# Altium footprint library Terminal_Blocks_Rising Case Clamp PCB_3.5mm.PcbLib: 4 footprints
Each footprint in its own frame and in the unit in brackets; x right, y up, seen from the top. Pads: shape width x height; smd on the part's side, far side on the other; paste and mask are expansions set on the pad; w line width, h text height; cw(c..) or ccw(c..) is an arc to the next point about the centre after c.
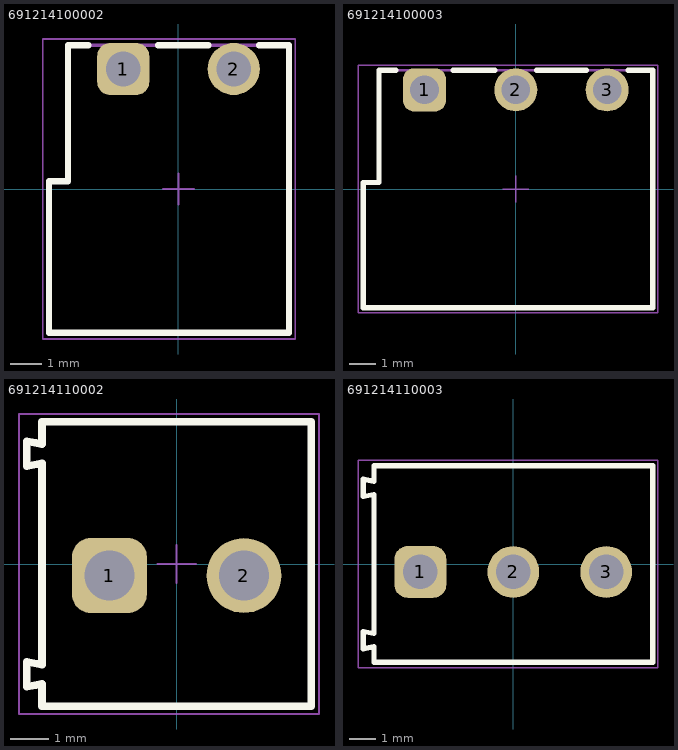
[diagram p0: the footprints below, top view; thin cyan lines are the x and y axes]

## 691214100002 [mm] "3.50 mm Vertical Entry Modular with Rising Cage Clamp, 2p"
height 7.3
pads (2):
  rrect50% 1.65x1.65 hole 1.1: 1(-1.75,3.8)
  round 1.65 hole 1.1: 2(1.75,3.8)
Top Overlay:
  lines w0.2: -2.85,4.55 -3.5,4.55 -3.5,0.25 -4.1,0.25 -4.1,-4.55 3.5,-4.55 3.5,4.55 2.55,4.55 ; -0.65,4.55 0.95,4.55
Top Designator:
  text ".Designator" at -7.498,-0.5 h1.5
Top Component Outline:
  lines w0.1: -4.1,-4.55 3.5,-4.55 3.5,4.55 -3.5,4.55 -3.5,0.25 -4.1,0.25 -4.1,-4.55
Top 3D Body:
  lines w0.1: -4.1,-4.55 -4.1,0.25 -3.5,0.25 -3.5,4.55 3.5,4.55 3.5,-4.55 -4.1,-4.55
Top Courtyard:
  lines w0.05: -4.3,-4.75 -4.3,4.75 3.7,4.75 3.7,-4.75 -4.3,-4.75
Top Component Center:
  lines w0.05: -0.5,0 0.5,0 ; 0,-0.5 0,0.5
3D body "691214100002.stp": height 7.35, standoff -3.45, extent -4.1,-4.55 3.5,4.55

## 691214100003 [mm] "3.50 mm Vertical Entry Modular with Rising Cage Clamp, 3p"
height 7.3
pads (3):
  rrect50% 1.65x1.65 hole 1.1: 1(-3.5,3.8)
  round 1.65 hole 1.1: 2(0,3.8) 3(3.5,3.8)
Top Overlay:
  lines w0.2: -4.6,4.55 -5.25,4.55 -5.25,0.25 -5.85,0.25 -5.85,-4.55 5.25,-4.55 5.25,4.55 4.3,4.55 ; -2.4,4.55 -0.8,4.55 ; 0.8,4.55 2.7,4.55
Top Designator:
  text ".Designator" at -7.498,-0.5 h1.5
Top Component Outline:
  lines w0.1: -5.85,-4.55 5.25,-4.55 5.25,4.55 -5.25,4.55 -5.25,0.25 -5.85,0.25 -5.85,-4.55
Top 3D Body:
  lines w0.1: -5.85,-4.55 -5.85,0.25 -5.25,0.25 -5.25,4.55 5.25,4.55 5.25,-4.55 -5.85,-4.55
Top Courtyard:
  lines w0.05: -6.05,-4.75 -6.05,4.75 5.45,4.75 5.45,-4.75 -6.05,-4.75
Top Component Center:
  lines w0.05: -0.5,0 0.5,0 ; 0,-0.5 0,0.5
3D body "691214100003.stp": height 7.35, standoff -3.45, extent -5.85,-4.55 5.25,4.55

## 691214110002 [mm] "3.50 mm Horizontal Entry Modular, 2p"
height 8.5
pads (2):
  rrect50% 1.95x1.95 hole 1.3: 1(-1.75,-0.3)
  round 1.95 hole 1.3: 2(1.75,-0.3)
Top Overlay:
  lines w0.2: -3.9,-3.195 -3.9,-2.545 -3.5,-2.62 -3.5,2.62 -3.9,2.545 -3.9,3.195 -3.5,3.12 -3.5,3.7 3.5,3.7 3.5,-3.7 -3.5,-3.7 -3.5,-3.12 -3.9,-3.195
Top Designator:
  text ".Designator" at -7.498,-0.5 h1.5
Top Component Outline:
  lines w0.1: -3.9,-3.195 -3.5,-3.12 -3.5,-3.7 3.5,-3.7 3.5,3.7 -3.5,3.7 -3.5,3.12 -3.9,3.195 -3.9,2.545 -3.5,2.62 -3.5,-2.62 -3.9,-2.545 -3.9,-3.195
Top 3D Body:
  lines w0.1: -3.9,-3.195 -3.9,-2.545 -3.5,-2.62 -3.5,2.62 -3.9,2.545 -3.9,3.195 -3.5,3.12 -3.5,3.7 3.5,3.7 3.5,-3.7 -3.5,-3.7 -3.5,-3.12 -3.9,-3.195
Top Courtyard:
  lines w0.05: -4.1,-3.9 -4.1,3.9 3.7,3.9 3.7,-3.9 -4.1,-3.9
Top Component Center:
  lines w0.05: -0.5,0 0.5,0 ; 0,-0.5 0,0.5
3D body "691214110002.stp": height 8.55, standoff -3.65, extent -3.95,-3.7 3.5,3.7

## 691214110003 [mm] "3.50 mm Horizontal Entry Modular, 3p"
height 8.5
pads (3):
  rrect50% 1.95x1.95 hole 1.3: 1(-3.5,-0.3)
  round 1.95 hole 1.3: 2(0,-0.3) 3(3.5,-0.3)
Top Overlay:
  lines w0.2: -5.65,-3.195 -5.25,-3.12 -5.25,-3.7 5.25,-3.7 5.25,3.7 -5.25,3.7 -5.25,3.12 -5.65,3.195 -5.65,2.545 -5.25,2.62 -5.25,-2.62 -5.65,-2.545 -5.65,-3.195
Top Designator:
  text ".Designator" at -7.498,-0.5 h1.5
Top Component Outline:
  lines w0.1: -5.65,-3.195 -5.65,-2.545 -5.25,-2.62 -5.25,2.62 -5.65,2.545 -5.65,3.195 -5.25,3.12 -5.25,3.7 5.25,3.7 5.25,-3.7 -5.25,-3.7 -5.25,-3.12 -5.65,-3.195
Top 3D Body:
  lines w0.1: -5.65,-3.195 -5.25,-3.12 -5.25,-3.7 5.25,-3.7 5.25,3.7 -5.25,3.7 -5.25,3.12 -5.65,3.195 -5.65,2.545 -5.25,2.62 -5.25,-2.62 -5.65,-2.545 -5.65,-3.195
Top Courtyard:
  lines w0.05: -5.85,-3.9 5.45,-3.9 5.45,3.9 -5.85,3.9 -5.85,-3.9
Top Component Center:
  lines w0.05: -0.5,0 0.5,0 ; 0,-0.5 0,0.5
3D body "691214110003.stp": height 8.55, standoff -3.65, extent -5.7,-3.7 5.25,3.7